# EAGLE library part AD588JQ (library copied_new_footprints)
High Precision Voltage Reference
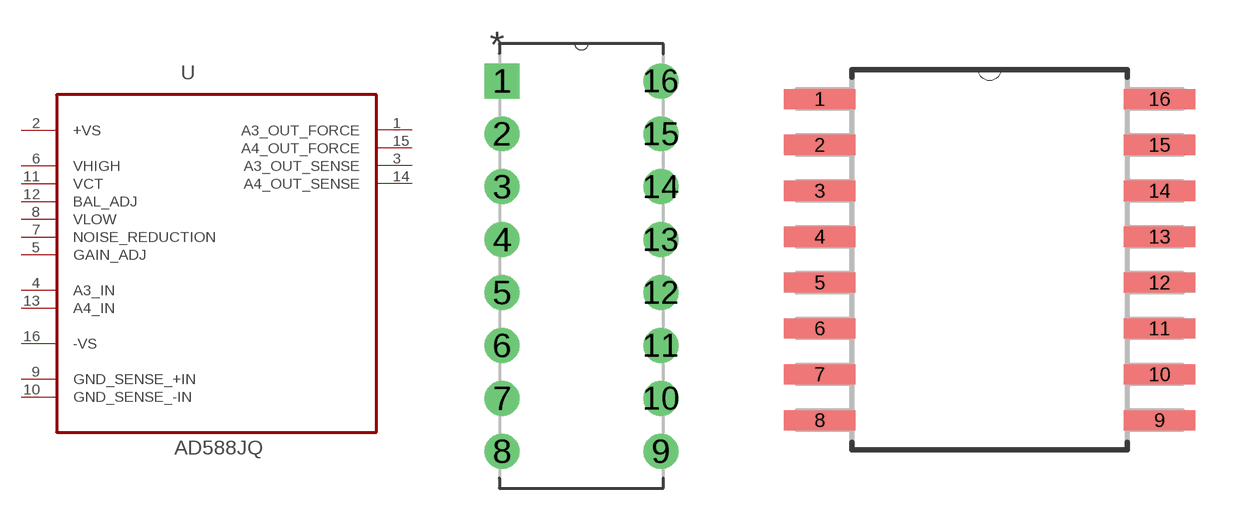
[diagram p0: symbol with the pads of DIP254P762X508-16; footprints DIP254P762X508-16, SOIC127P1032X265-16N]

Designator prefix U

## AD588JQDIP (MPN: AD588JQ; OC_FARNELL: 411700; OC_NEWARK: 06WX1591; PACKAGE: 16-DIP; SUPPLIER: Analog Devices)  [DIP254P762X508-16]
1  A3_OUT_FORCE  out
2  +VS  pwr
3  A3_OUT_SENSE  out
4  A3_IN  in
5  GAIN_ADJ  in
6  VHIGH  in
7  NOISE_REDUCTION  in
8  VLOW  in
9  GND_SENSE_+IN  pas
10  GND_SENSE_-IN  pas
11  VCT  in
12  BAL_ADJ  in
13  A4_IN  in
14  A4_OUT_SENSE  out
15  A4_OUT_FORCE  out
16  -VS  pwr

## AD588JQSOIC16W  [SOIC127P1032X265-16N]
Pads as for DIP254P762X508-16

## Footprint DIP254P762X508-16 (pad centres in mm)
drill 1.118 square: 1 -7.62,17.78
drill 1.118: 2 -7.62,15.24; 3 -7.62,12.7; 4 -7.62,10.16; 5 -7.62,7.62; 6 -7.62,5.08; 7 -7.62,2.54; 8 -7.62,0; 9 0,0; 10 0,2.54; 11 0,5.08; 12 0,7.62; 13 0,10.16; 14 0,12.7; 15 0,15.24; 16 0,17.78

## Footprint SOIC127P1032X265-16N (pad centres in mm)
smd 1.981 x 0.559: 1 -4.699,4.445; 2 -4.699,3.175; 3 -4.699,1.905; 4 -4.699,0.635; 5 -4.699,-0.635; 6 -4.699,-1.905; 7 -4.699,-3.175; 8 -4.699,-4.445; 9 4.699,-4.445; 10 4.699,-3.175; 11 4.699,-1.905; 12 4.699,-0.635; 13 4.699,0.635; 14 4.699,1.905; 15 4.699,3.175; 16 4.699,4.445